# Altium schematic symbol library 691 701 540 0xx B.SchLib: 11 symbols
Pins are listed as number, name and electrical type; pins without a type are passive.

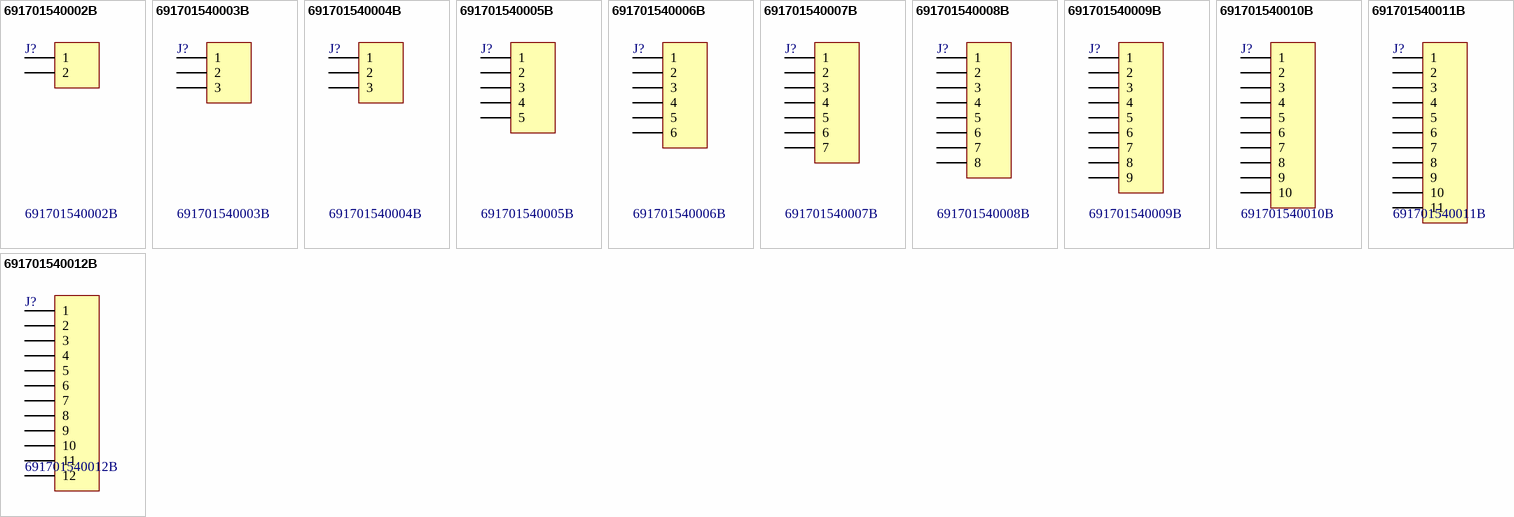
[diagram p0: symbols 691701540002B to 691701540012B]

## 691701540002B
designator J?
WR-TBL Terminal Blocks Serie 7015 B - 5.08 mm THR Type; Manufacturer: Würth Elektronik eiSos GmbH; ComponentLink1 Description: Manufacturer; ComponentLink2 Description: Datasheet; NoPins: 02; Created Date: 31 March 2014; partNo: 691701540002B; ComponentLink1URL: http://www.we-online.com; ComponentLink2URL: http://katalog.we-online.de/em/datasheet/6917015400xxB.pdf; Created by: Karrer Zheng; Value: 691701540002B
footprint 691701540002B (THR - 5,08mm - PCB Horizontal Close - 02p)
pins: 1, 2

## 691701540003B
designator J?
WR-TBL Terminal Blocks Serie 7015 B - 5.08 mm THR Type; Manufacturer: Würth Elektronik eiSos GmbH; ComponentLink1 Description: Manufacturer; ComponentLink2 Description: Datasheet; NoPins: 03; Created Date: 31 March 2014; partNo: 691701540003B; ComponentLink1URL: http://www.we-online.com; ComponentLink2URL: http://katalog.we-online.de/em/datasheet/6917015400xxB.pdf; Created by: Karrer Zheng; Value: 691701540003B
footprint 691701540003B (THR - 5,08mm - PCB Horizontal Close - 03p)
pins: 1, 2, 3

## 691701540004B
designator J?
WR-TBL Terminal Blocks Serie 7015 B - 5.08 mm THR Type; Manufacturer: Würth Elektronik eiSos GmbH; ComponentLink1 Description: Manufacturer; ComponentLink2 Description: Datasheet; NoPins: 04; Created Date: 31 March 2014; partNo: 691701540004B; ComponentLink1URL: http://www.we-online.com; ComponentLink2URL: http://katalog.we-online.de/em/datasheet/6917015400xxB.pdf; Created by: Karrer Zheng; Value: 691701540004B
footprint 691701540004B (THR - 5,08mm - PCB Horizontal Close - 04p)
pins: 1, 2, 3

## 691701540005B
designator J?
WR-TBL Terminal Blocks Serie 7015 B - 5.08 mm THR Type; Manufacturer: Würth Elektronik eiSos GmbH; ComponentLink1 Description: Manufacturer; ComponentLink2 Description: Datasheet; NoPins: 05; Created Date: 31 March 2014; partNo: 691701540005B; ComponentLink1URL: http://www.we-online.com; ComponentLink2URL: http://katalog.we-online.de/em/datasheet/6917015400xxB.pdf; Created by: Karrer Zheng; Value: 691701540005B
footprint 691701540005B (THR - 5,08mm - PCB Horizontal Close - 05p)
pins: 1, 2, 3, 4, 5

## 691701540006B
designator J?
WR-TBL Terminal Blocks Serie 7015 B - 5.08 mm THR Type; Manufacturer: Würth Elektronik eiSos GmbH; ComponentLink1 Description: Manufacturer; ComponentLink2 Description: Datasheet; NoPins: 06; Created Date: 31 March 2014; partNo: 691701540006B; ComponentLink1URL: http://www.we-online.com; ComponentLink2URL: http://katalog.we-online.de/em/datasheet/6917015400xxB.pdf; Created by: Karrer Zheng; Value: 691701540006B
footprint 691701540006B (THR - 5,08mm - PCB Horizontal Close - 06p)
pins: 1, 2, 3, 4, 5, 6

## 691701540007B
designator J?
WR-TBL Terminal Blocks Serie 7015 B - 5.08 mm THR Type; Manufacturer: Würth Elektronik eiSos GmbH; ComponentLink1 Description: Manufacturer; ComponentLink2 Description: Datasheet; NoPins: 07; Created Date: 31 March 2014; partNo: 691701540007B; ComponentLink1URL: http://www.we-online.com; ComponentLink2URL: http://katalog.we-online.de/em/datasheet/6917015400xxB.pdf; Created by: Karrer Zheng; Value: 691701540007B
footprint 691701540007B (THR - 5,08mm - PCB Horizontal Close - 07p)
pins: 1, 2, 3, 4, 5, 6, 7

## 691701540008B
designator J?
WR-TBL Terminal Blocks Serie 7015 B - 5.08 mm THR Type; Manufacturer: Würth Elektronik eiSos GmbH; ComponentLink1 Description: Manufacturer; ComponentLink2 Description: Datasheet; NoPins: 08; Created Date: 31 March 2014; partNo: 691701540008B; ComponentLink1URL: http://www.we-online.com; ComponentLink2URL: http://katalog.we-online.de/em/datasheet/6917015400xxB.pdf; Created by: Karrer Zheng; Value: 691701540008B
footprint 691701540008B (THR - 5,08mm - PCB Horizontal Close - 08p)
pins: 1, 2, 3, 4, 5, 6, 7, 8

## 691701540009B
designator J?
WR-TBL Terminal Blocks Serie 7015 B - 5.08 mm THR Type; Manufacturer: Würth Elektronik eiSos GmbH; ComponentLink1 Description: Manufacturer; ComponentLink2 Description: Datasheet; NoPins: 09; Created Date: 31 March 2014; partNo: 691701540009B; ComponentLink1URL: http://www.we-online.com; ComponentLink2URL: http://katalog.we-online.de/em/datasheet/6917015400xxB.pdf; Created by: Karrer Zheng; Value: 691701540009B
footprint 691701540009B (THR - 5,08mm - PCB Horizontal Close - 09p)
pins: 1, 2, 3, 4, 5, 6, 7, 8, 9

## 691701540010B
designator J?
WR-TBL Terminal Blocks Serie 7015 B - 5.08 mm THR Type; Manufacturer: Würth Elektronik eiSos GmbH; ComponentLink1 Description: Manufacturer; ComponentLink2 Description: Datasheet; NoPins: 10; Created Date: 31 March 2014; partNo: 691701540010B; ComponentLink1URL: http://www.we-online.com; ComponentLink2URL: http://katalog.we-online.de/em/datasheet/6917015400xxB.pdf; Created by: Karrer Zheng; Value: 691701540010B
footprint 691701540010B (THR - 5,08mm - PCB Horizontal Close - 10p)
pins: 1, 2, 3, 4, 5, 6, 7, 8, 9, 10

## 691701540011B
designator J?
WR-TBL Terminal Blocks Serie 7015 B - 5.08 mm THR Type; Manufacturer: Würth Elektronik eiSos GmbH; ComponentLink1 Description: Manufacturer; ComponentLink2 Description: Datasheet; NoPins: 11; Created Date: 31 March 2014; partNo: 691701540011B; ComponentLink1URL: http://www.we-online.com; ComponentLink2URL: http://katalog.we-online.de/em/datasheet/6917015400xxB.pdf; Created by: Karrer Zheng; Value: 691701540011B
footprint 691701540011B (THR - 5,08mm - PCB Horizontal Close - 11p)
pins: 1, 2, 3, 4, 5, 6, 7, 8, 9, 10, 11

## 691701540012B
designator J?
WR-TBL Terminal Blocks Serie 7015 B - 5.08 mm THR Type; Manufacturer: Würth Elektronik eiSos GmbH; ComponentLink1 Description: Manufacturer; ComponentLink2 Description: Datasheet; NoPins: 12; Created Date: 31 March 2014; partNo: 691701540012B; ComponentLink1URL: http://www.we-online.com; ComponentLink2URL: http://katalog.we-online.de/em/datasheet/6917015400xxB.pdf; Created by: Karrer Zheng; Value: 691701540012B
footprint 691701540012B (THR - 5,08mm - PCB Horizontal Close - 12p)
pins: 1, 2, 3, 4, 5, 6, 7, 8, 9, 10, 11, 12